# Altium schematic symbol library SCH - POWER - SWITCHMODE - TI TPS62060_DSG_8.SchLib: 1 symbol
Pins are listed as number, name and electrical type; pins without a type are passive.

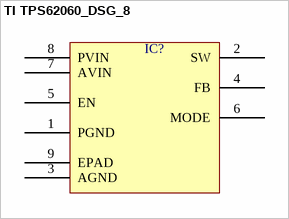
[diagram p0: symbol TI TPS62060_DSG_8]

## TI TPS62060_DSG_8
designator IC?  (value not drawn)
pins: 1 PGND, 2 SW, 3 AGND, 4 FB, 5 EN, 6 MODE, 7 AVIN, 8 PVIN, 9 EPAD